# EAGLE library part L6932H (library L6932H)
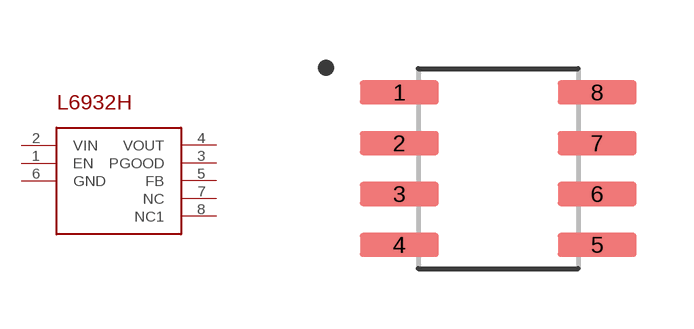
[diagram p0: symbol with the pads of SOIC127P600X175-8N; footprint SOIC127P600X175-8N]

Designator prefix -

## L6932H  [SOIC127P600X175-8N]
1  EN
2  VIN
3  PGOOD
4  VOUT
5  FB
6  GND
7  NC
8  NC1

## Footprint SOIC127P600X175-8N (pad centres in mm)
smd 1.97 x 0.6: 1 -2.475,1.905; 2 -2.475,0.635; 3 -2.475,-0.635; 4 -2.475,-1.905; 5 2.475,-1.905; 6 2.475,-0.635; 7 2.475,0.635; 8 2.475,1.905